# Altium schematic symbol library SCH - CONNECTORS - WE 66201021022.Schlib: 1 symbol
Pins are listed as number, name and electrical type; pins without a type are passive.

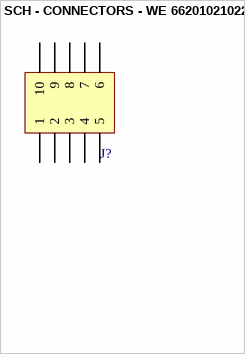
[diagram p0: symbol SCH - CONNECTORS - WE 66201021022]

## SCH - CONNECTORS - WE 66201021022
designator J?
ComponentLink1 Description: Manufacturer; ComponentLink2 Description: Datasheet; ComponentLink1URL: http://www.we-online.com; ComponentLink2URL: http://katalog.we-online.de/em/datasheet/6620xx21022.pdf
footprint 66201021022 (Dual row Right angle header With plastic peg 10p)
pins: 1, 2, 3, 4, 5, 6, 7, 8, 9, 10